# Altium schematic symbol library Source Selector.SchLib: 29 symbols
Pins are listed as number, name and electrical type; pins without a type are passive.

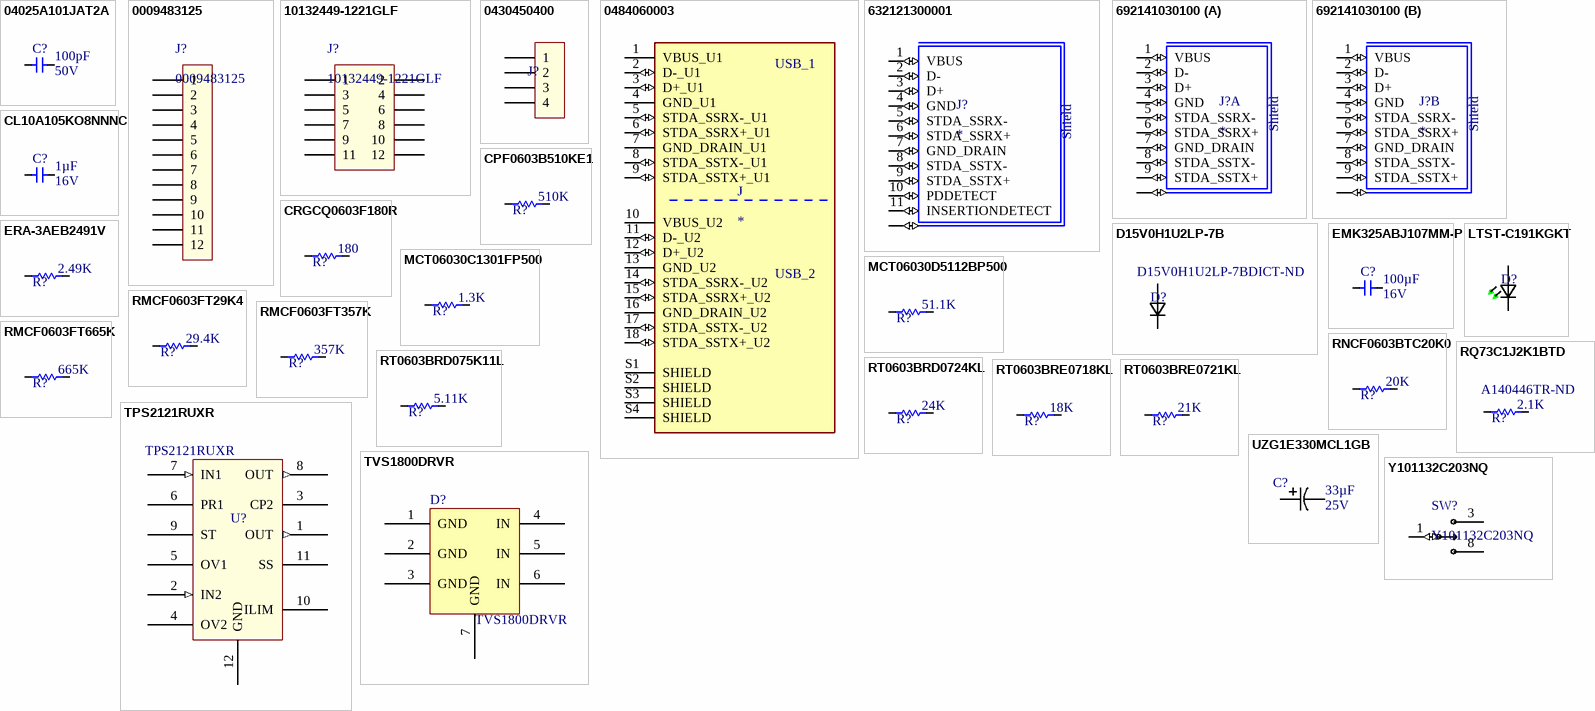
[diagram p0: symbols 04025A101JAT2A to Y101132C203NQ]

## 04025A101JAT2A
designator C?  Capacitance: 100pF  Voltage - Rated: 50V  (hidden comment: 04025A101JAT2A)
CAP CER 100PF 50V C0G/NP0 0402; Manufacturer: AVX Corporation; Tolerance: ±5%; Temperature Coefficient: C0G, NP0; Operating Temperature: -55°C ~ 125°C; Mounting Type: Surface Mount, MLCC; Package / Case: 0402 (1005 Metric); Size / Dimension: 0.039" L x 0.020" W (1.00mm x 0.50mm); Manufacturer Part Number: 04025A101JAT2A; Thickness (Max): 0.022" (0.56mm); ComponentLink1Description: Datasheet; ComponentLink1URL: http://datasheets.avx.com/C0GNP0-Dielectric.pdf; Supplier 1: Digi-Key; Supplier Part Number 1: 478-1082-1-ND
footprint 0603[1608]
pins: 1, 2

## 0009483125
designator J?
CONN RCPT 12P 0.156 GOLD EDGE MT; Manufacturer: Molex; Connector Type: Receptacle; Style: Board to Board or Cable; Number of Positions: 12; Pitch - Mating: 0.156" (3.96mm); Number of Positions Loaded: All; Contact Length - Post: 0.145" (3.68mm); Material Flammability Rating: UL94 V-0; Voltage Rating: 600V; Current Rating (Amps): 4.5A; ComponentLink1Description: Drawing; ComponentLink1URL: https://www.molex.com/pdm_docs/sd/009483125_sd.pdf; Manufacturer Part Number: 0009483125; Contact Type: Female Socket; Number of Rows: 1; Mounting Type: Board Edge, Through Hole, Right Angle; Termination: Solder; Fastening Type: Locking Ramp; Contact Finish - Mating: Gold; Contact Finish Thickness - Mating: 15.0µin (0.38µm); Insulation Color: Natural; Insulation Height: 0.308" (7.82mm); Operating Temperature: -40°C ~ 80°C; Contact Finish - Post: Tin; Features: Board Hooks; Applications: Automotive, General Purpose, Medical, Telecommunications; Insulation Material: Polyester; Contact Shape: Square; Contact Material: Brass; Contact Finish Thickness - Post: 100.0µin (2.54µm)
footprint 0009483125 (CONN RCPT 12P 0.156 GOLD EDGE MT)
pins: 1 (power), 2 (power), 3 (power), 4 (power), 5 (power), 6 (power), 7 (power), 8 (power), 9 (power), 10 (power), 11, 12

## 10132449-1221GLF
designator J?
CONN HEADER R/A 12POS 3MM; Manufacturer: Amphenol ICC (FCI); Pitch - Mating: 0.118" (3.00mm); Number of Positions: 12; Number of Positions Loaded: All; Style: Board to Cable/Wire; Shrouding: Shrouded - 4 Wall; Contact Length - Post: 0.126" (3.20mm); Material Flammability Rating: UL94 V-0; Voltage Rating: 250V; ComponentLink1Description: Datasheet; ComponentLink1URL: https://cdn.amphenol-icc.com/media/wysiwyg/files/documentation/datasheet/boardwiretoboard/bwb_minitekpwr3.0_hcc.pdf?__cf_chl_jschl_tk__=5b50c337d7977d3136f5a7e9c1a5138446a86722-1578191481-0-AdRe7fXYrldvOZ_oqyXIDS1Fw-yIkYCF-QCdaR8gv5bvudzwMePuF1OnY_qX9R1SRbUtnU8KyfMeQWvo-tgbYDs0UY0fEf2VYly7RnE44wN6RCRwe79pwwTkwB-vrp_E3FFt_m8Gv1l0VQgfDvqJJh9NWsFdXN6uiHYgEWJHQlxni9pgO_Rgu9b74Q_adNTuUPkDts4F_sjwuXFS2gwZ4qhDRVIbOsJk9z2IFwtIQbJe2Vjr12REDPUJnSIFI5L_m3PVR56FMV99EE0fexLx9E4Xzm8z4yXY4QuL_nxicuZLnFM8rKw84cv6VQDtrcv1h8b5URSWpnxkbKmN-6xqBT_N2gwuiomQytubllip4AB4QtXNO4uZy8p0Kaq8ZXDsS9f0XOGpGrNCvURFRCr5YrB2nakG2mZwStZMD_Rr-W-x1kEQ5VT0_Uar3vHfURsPPw; ComponentLink2Description: Drawing; ComponentLink2URL: https://cdn.amphenol-icc.com/media/wysiwyg/files/drawing/10132449.pdf?__cf_chl_jschl_tk__=3fb7538f61705fd3db72d6547b71e22025aaeae6-1578191484-0-ARZmBU2d2iTfwOyvkDW6juGvz8Wa7jPk-lPTAGC3bi6AwA2PAOw_83XbqimUoaj63c73oghkBl5EBlxfVnJt5FnKIy9_Ampqry6wpxN3P9yFfGzzu2bzrkjXc8H98cNGfE4yNZOx4lVYAc0DYF8iUgUBt3ot3PAqRWTuL_OE0dIKXvMd7u_4fU7igR1oB3QBFAu564mexcV1Dg4phJ9BA4kHFs6CIC10MmA2ZlPsaDWmfr6ivcYRarJOnVBN46Piz5s9Rafd2OkXuSIM4yJjlli4dKOItRDrJD3hRC0iA9RVgXipc9Ibd3Qny2RaW6xQiV-dovtBkpyFUGJQUyK5Difre6fQiv59Vrr2PfvD74WBgrERIBaIQ4JCRXFCC0XHSA; Supplier 1: Digi-Key; Supplier Part Number 1: 609-5289-ND; Contact Type: Male Pin; Number of Rows: 2; Row Spacing - Mating: 0.118" (3.00mm); Mounting Type: Through Hole, Right Angle; Termination: Solder; Fastening Type: Locking Ramp; Insulation Height: 0.343" (8.71mm); Contact Shape: Square; Contact Finish - Mating: Tin; Contact Finish - Post: Tin; Contact Material: Copper Alloy; Insulation Material: Polyamide (PA9T), Nylon 9T; Features: Board Lock, Glow Wire Compliant; Operating Temperature: -40°C ~ 105°C; Insulation Color: Black; Manufacturer Part Number: 10132449-1221GLF
footprint 10132449-1221GLF (CONN HEADER R/A 12POS 3MM)
pins: 1, 2, 3, 4, 5, 6, 7, 8, 9, 10, 11, 12

## 0430450400
designator J?  (value not drawn)
CONN HEADER R/A 4POS 3MM; Manufacturer: Molex; Number of Positions: 4; Row Spacing - Mating: 0.118" (3.00mm); Shrouding: Shrouded - 4 Wall; Contact Length - Post: 0.125" (3.18mm); Material Flammability Rating: UL94 V-0; Current Rating (Amps): 8A; Voltage Rating: 600V; ComponentLink1Description: Datasheet; ComponentLink1URL: https://www.molex.com/pdm_docs/sd/430450400_sd.pdf; ComponentLink2Description: Product Specification; ComponentLink2URL: https://www.molex.com/pdm_docs/ps/PS-43045.pdf; Manufacturer Part Number: 0430450400; Contact Type: 0.118" (3.00mm); Number of Rows: 2; Mounting Type: Through Hole, Right Angle; Termination: Solder; Fastening Type: Locking Ramp; Insulation Height: 0.290" (7.37mm); Contact Shape: Square; Contact Finish - Mating: Tin; Contact Finish Thickness - Mating: 100.0µin (2.54µm); Contact Finish - Post: Tin; Contact Material: Brass; Insulation Material: Liquid Crystal Polymer (LCP), Glass Filled; Features: Board Lock; Insulation Color: Black; Supplier 1: Digi-Key; Supplier Part Number 1: WM1814-ND
footprint 0430450400 (4-Pin Molex 3.00mm Pitch)
pins: 1, 2, 3, 4

## 0484060003
designator J
USB-A _USB TYPE-A_, Stacked USB 3.0 _USB 3.1 Gen 1, Superspeed_ Receptacle Connector 18 Position Through Hole, Right Angle; MP: 0484060003; MF: Molex; Package: None; Price: None; Availability: Unavailable; Value: *; SnapEDA_Link: https://www.snapeda.com/parts/0484060003/Molex/view-part/424547/?ref=snap
footprint MOLEX_0484060003
pins: 1 VBUS_U1 (power), 2 D-_U1 (io), 3 D+_U1 (io), 4 GND_U1 (power), 5 STDA_SSRX-_U1 (io), 6 STDA_SSRX+_U1 (io), 7 GND_DRAIN_U1 (power), 8 STDA_SSTX-_U1 (io), 9 STDA_SSTX+_U1 (io), 10 VBUS_U2 (power), 11 D-_U2 (io), 12 D+_U2 (io), 13 GND_U2 (power), 14 STDA_SSRX-_U2 (io), 15 STDA_SSRX+_U2 (io), 16 GND_DRAIN_U2 (power), 17 STDA_SSTX-_U2 (io), 18 STDA_SSTX+_U2 (io), S1 SHIELD, S2 SHIELD, S3 SHIELD, S4 SHIELD
text: USB_1; USB_2

## 632121300001
designator J?
USB-A (USB TYPE-A) USB 3.0 (USB 3.1 Gen 1, Superspeed) Receptacle Connector 11 Position Through Hole, Right Angle; MP: 632121300001; MF: Wurth Electronics; Price: None; Purchase-URL: https://pricing.snapeda.com/search/part/632121300001/?ref=eda; Package: None; Check_prices: https://www.snapeda.com/parts/632121300001/Wurth%20Electronics%20Inc./view-part/1118308/?ref=eda; Value: *; Availability: Warning; SnapEDA_Link: https://www.snapeda.com/parts/632121300001/Wurth%20Electronics%20Inc./view-part/1118308/?ref=snap
footprint 632121300001
pins: 1 VBUS (io), 2 D- (io), 3 D+ (io), 4 GND (io), 5 STDA_SSRX- (io), 6 STDA_SSRX+ (io), 7 GND_DRAIN (io), 8 STDA_SSTX- (io), 9 STDA_SSTX+ (io), 10 PDDETECT (io), 11 INSERTIONDETECT (io), 12 SHIELD (io), 13 SHIELD (io), S1 SHIELD (io), S2 SHIELD (io), S3 SHIELD (io), S4 SHIELD (io)
text: Shield

## 692141030100
designator J?
USB-A (USB TYPE-A), Stacked USB 3.0 (USB 3.1 Gen 1, Superspeed) Receptacle Connector 18 Position Through Hole, Right Angle; MP: 692141030100; MF: Wurth Electronics; Price: None; SnapEDA_Link: https://www.snapeda.com/parts/692141030100/Wurth%20Electronics%20Inc./view-part/604371/?ref=snap; Availability: Warning; Purchase-URL: https://pricing.snapeda.com/search/part/692141030100/?ref=eda; Value: *; Check_prices: https://www.snapeda.com/parts/692141030100/Wurth%20Electronics%20Inc./view-part/604371/?ref=eda; Package: None
footprint 692141030100
part A pins: 1 VBUS (io), 2 D- (io), 3 D+ (io), 4 GND (io), 5 STDA_SSRX- (io), 6 STDA_SSRX+ (io), 7 GND_DRAIN (io), 8 STDA_SSTX- (io), 9 STDA_SSTX+ (io), S3 SHIELD (io), S4 SHIELD (io)
part B pins: 1 VBUS (io), 2 D- (io), 3 D+ (io), 4 GND (io), 5 STDA_SSRX- (io), 6 STDA_SSRX+ (io), 7 GND_DRAIN (io), 8 STDA_SSTX- (io), 9 STDA_SSTX+ (io), S3 SHIELD (io), S4 SHIELD (io)
part A text: Shield
part B text: Shield

## CL10A105KO8NNNC
designator C?  Capacitance: 1µF  Voltage - Rated: 16V  (hidden comment: CL10A105KO8NNNC)
CAP CER 1UF 16V X5R 0603; Manufacturer: Samsung Electro-Mechanics; Tolerance: ±10%; Temperature Coefficient: X5R; Operating Temperature: -55°C ~ 85°C; Mounting Type: Surface Mount, MLCC; Package / Case: 0603; Manufacturer Part Number: CL10A105KO8NNNC; Thickness (Max): 0.110"" (2.80mm); ComponentLink1Description: Datasheet; ComponentLink1URL: https://ds.yuden.co.jp/TYCOMPAS/ut/detail?pn=EMK325ABJ107MM-P%20&u=M; Supplier 1: Digi-Key; Supplier Part Number 1: 1276-1034-1-ND
footprint CAPC3225X280N
pins: 1, 2

## CPF0603B510KE1
designator R?  Resistance: 510K  (hidden comment: CPF0603B510KE1)
RES SMD 510K OHM 0.1% 1/16W 0603; Manufacturer: TE Connectivity Passive Product; Temperature Coefficient: ±25ppm/°C; Power  (W): 1/16W; Package: 0603 (1608 Metric); Tolerance: ±0.1%; Operating Temperature: -55°C ~ 155°C; Composition: Thin Film; Manufacturer Part Number: CPF0603B510KE1; ComponentLink1Description: Datasheet; ComponentLink1URL: https://www.te.com/commerce/DocumentDelivery/DDEController?Action=srchrtrv&DocNm=1773200&DocType=DS&DocLang=English; Supplier 1: Digi-Key; Supplier Part Number 1: A102291CT-ND
footprint 0603[1608]
pins: 1, 2
1 alternate drawing of the same symbol

## CRGCQ0603F180R
designator R?  Resistance: 180  (hidden comment: CRGCQ0603F180R)
RES 180 OHM 1% 1/10W 0603; Manufacturer: TE Connectivity Passive Product; Power  (W): 0.1W; Tolerance: ±0.1%; Temperature Coefficient: ±50ppm/°C; Package: 0603 (1608 Metric); Operating Temperature: -55°C ~ 155°C; Composition: Thin Film; Manufacturer Part Number: CRGCQ0603F180R; ComponentLink1Description: Datasheet; ComponentLink1URL: https://www.yageo.com/upload/media/product/productsearch/datasheet/rchip/PYu-RT_1-to-0.01_RoHS_L_12.pdf; Supplier 1: Digi-Key; Supplier Part Number 1: A129679CT-ND
footprint 0603[1608]
pins: 1, 2
1 alternate drawing of the same symbol

## D15V0H1U2LP-7B
designator D?  Supplier Part Number 1: D15V0H1U2LP-7BDICT-ND  (hidden comment: D15V0H1U2LP-7B)
TVS DIODE 15VWM 27VC DFN1006-2; Manufacturer: Diodes Incorporated; ComponentLink1Description: Datasheet; ComponentLink1URL: http://optoelectronics.liteon.com/upload/download/DS22-2000-228/LTST-C191KGKT.PDF; Manufacturer Part Number: D15V0H1U2LP-7B; Supplier 1: Digi-Key
footprint 04025A101JAT2A
pins: 1 K2, 2 A2

## EMK325ABJ107MM-P
designator C?  Capacitance: 100µF  Voltage - Rated: 16V  (hidden comment: EMK325ABJ107MM-P)
CAP CER 100UF 16V X5R 1210; Manufacturer: Taiyo Yuden; Tolerance: ±20%; Temperature Coefficient: X5R; Operating Temperature: -55°C ~ 85°C; Mounting Type: Surface Mount, MLCC; Package / Case: 1210 (3225 Metric); Size / Dimension: 0.126"" L x 0.098"" W (3.20mm x 2.50mm); Manufacturer Part Number: EMK325ABJ107MM-P; Thickness (Max): 0.110"" (2.80mm); ComponentLink1Description: Datasheet; ComponentLink1URL: https://ds.yuden.co.jp/TYCOMPAS/ut/detail?pn=EMK325ABJ107MM-P%20&u=M; Supplier 1: Digi-Key; Supplier Part Number 1: 587-5426-1-ND
footprint CAPC3225X280N
pins: 1, 2

## ERA-3AEB2491V
designator R?  Resistance: 2.49K  (hidden comment: ERA-3AEB2491V)
RES SMD 2.49KOHM 0.1% 1/10W 0603; Manufacturer: Panasonic Electronic Components; Power  (W): 0.1W; Temperature Coefficient: ±25ppm/°C; Package: 0603 (1608 Metric); Tolerance: ±0.1%; Operating Temperature: -55°C ~ 155°C; Composition: Thin Film; Manufacturer Part Number: ERA-3AEB2491V; ComponentLink1Description: Datasheet; ComponentLink1URL: https://industrial.panasonic.com/cdbs/www-data/pdf/RDM0000/AOA0000C307.pdf; Supplier 1: Digi-Key; Supplier Part Number 1: P2.49KDBCT-ND
footprint 0603[1608]
pins: 1, 2
1 alternate drawing of the same symbol

## LTST-C191KGKT
designator D?  (value not drawn)
LED GREEN CLEAR SMD 0603; Manufacturer: Lite-On Inc.; Lens Color: Colourless; Millicandela Rating: 35mcd; Lens Style: Rectangle with Flat Top; Lens Size: 1.10mm x 0.80mm; Voltage - Forward (Vf) (Typ): 2V; Current - Test: 20mA; Viewing Angle: 130°; Wavelength - Dominant: 571nm; Wavelength - Peak: 574nm; ComponentLink1Description: Datasheet; ComponentLink1URL: http://optoelectronics.liteon.com/upload/download/DS22-2000-228/LTST-C191KGKT.PDF; Manufacturer Part Number: LTST-C191KGKT; Colour: Green; Lens Transparency: Clear; Mounting Type: Surface Mount; Package / Case: 0603 (1608 Metric); Size / Dimension: 1.60mm L x 0.80mm W; Height (Max): 0.65mm; Supplier 1: Digi-Key; Supplier Part Number 1: 160-1446-1-ND
footprint LTST-C191KGKT (Green 571nm LED Indication - Discrete 2V 0603)
pins: 1 K2, 2 A2

## MCT06030C1301FP500
designator R?  Resistance: 1.3K  (hidden comment: MCT06030C1301FP500)
RES SMD 1.3K OHM 1% 1/8W 0603; Manufacturer: Vishay Beyschlag; Temperature Coefficient: ±50ppm/°C; Power  (W): 1/8W; Package: 0603 (1608 Metric); Tolerance: ±1%; Operating Temperature: -55°C ~ 155°C; Composition: Thin Film; Manufacturer Part Number: MCT06030C1301FP500; ComponentLink1Description: Datasheet; ComponentLink1URL: http://www.vishay.com/docs/28705/mcx0x0xpro.pdf; Supplier 1: Digi-Key; Supplier Part Number 1: 749-1605-1-ND
footprint 0603[1608]
pins: 1, 2
1 alternate drawing of the same symbol

## MCT06030D5112BP500
designator R?  Resistance: 51.1K  (hidden comment: MCT06030D5112BP500)
RES SMD 51.1KOHM 0.1% 1/10W 0603; Manufacturer: Vishay Beyschlag/Draloric/BC Components; Power  (W): 0.1W; Temperature Coefficient: ±25ppm/°C; Package: 0603 (1608 Metric); Tolerance: ±0.1%; Operating Temperature: -55°C ~ 125°C; Composition: Thin Film; Manufacturer Part Number: MCT06030D5112BP500; ComponentLink1Description: Datasheet; ComponentLink1URL: https://www.vishay.com/docs/28700/mcx0x0xpre.pdf; Supplier 1: Digi-Key; Supplier Part Number 1: 749-MCT06030D5112BP500CT-ND
footprint 0603[1608]
pins: 1, 2
1 alternate drawing of the same symbol

## RMCF0603FT29K4
designator R?  Resistance: 29.4K  (hidden comment: RMCF0603FT29K4)
RES 29.4K OHM 1% 1/10W 0603; Manufacturer: Stackpole Electronics Inc; Power  (W): 0.1W; Temperature Coefficient: ±100ppm/°C; Package: 0603 (1608 Metric); Tolerance: ±1%; Operating Temperature: -55°C ~ 155°C; Composition: Thick Film; Manufacturer Part Number: RMCF0603FT29K4; Supplier 1: Digi-Key; Supplier Part Number 1: 738-RMCF0603FT29K4CT-ND
footprint 0603[1608]
pins: 1, 2
1 alternate drawing of the same symbol

## RMCF0603FT357K
designator R?  Resistance: 357K  (hidden comment: RMCF0603FT357K)
RES 357K OHM 1% 1/10W 0603; Manufacturer: Stackpole Electronics Inc; Power  (W): 0.1W; Temperature Coefficient: ±100ppm/°C; Package: 0603 (1608 Metric); Tolerance: ±1%; Operating Temperature: -55°C ~ 155°C; Composition: Thick Film; Manufacturer Part Number: RMCF0603FT357K; ComponentLink1Description: Datasheet; ComponentLink1URL: https://www.seielect.com/catalog/sei-rmcf_rmcp.pdf; Supplier 1: Digi-Key; Supplier Part Number 1: RMCF0603FT357KCT-ND
footprint 0603[1608]
pins: 1, 2
1 alternate drawing of the same symbol

## RMCF0603FT665K
designator R?  Resistance: 665K  (hidden comment: RMCF0603FT665K)
RES 665K OHM 1% 1/10W 0603; Manufacturer: Stackpole Electronics Inc; Power  (W): 0.1W; Temperature Coefficient: ±100ppm/°C; Package: 0603 (1608 Metric); Tolerance: ±1%; Operating Temperature: -55°C ~ 155°C; Composition: Thick Film; Manufacturer Part Number: RMCF0603FT665K; ComponentLink1Description: Datasheet; ComponentLink1URL: https://www.seielect.com/catalog/sei-rmcf_rmcp.pdf; Supplier 1: Digi-Key; Supplier Part Number 1: RMCF0603FT665KCT-ND
footprint 0603[1608]
pins: 1, 2
1 alternate drawing of the same symbol

## RNCF0603BTC20K0
designator R?  Resistance: 20K  (hidden comment: RNCF0603BTC20K0)
RES 20K OHM 0.1% 1/10W 0603; Manufacturer: Stackpole Electronics Inc; Power  (W): 0.1W; Temperature Coefficient: ±50ppm/°C; Package: 0603 (1608 Metric); Tolerance: ±0.1%; Operating Temperature: -55°C ~ 155°C; Composition: Thin Film; Manufacturer Part Number: RNCF0603BTC20K0; ComponentLink1Description: Datasheet; ComponentLink1URL: https://www.seielect.com/catalog/sei-rncf.pdf; Supplier 1: Digi-Key; Supplier Part Number 1: RNCF0603BTC20K0CT-ND
footprint 0603[1608]
pins: 1, 2
1 alternate drawing of the same symbol

## RQ73C1J2K1BTD
designator R?  Resistance: 2.1K  Supplier Part Number 1: A140446TR-ND  (hidden comment: RQ73C1J2K1BTD)
RES 2.1 KOHMS 0.1% 0.15W 0603; Manufacturer: TE Connectivity Passive Product; Power  (W): 0.1W; Temperature Coefficient: ±10ppm/°C; Package: 0603 (1608 Metric); Tolerance: ±0.1%; Operating Temperature: -55°C ~ 155°C; Composition: Thin Film; Manufacturer Part Number: RQ73C1J2K1BTD; ComponentLink1Description: Datasheet; ComponentLink1URL: https://media.digikey.com/pdf/Data%20Sheets/Tyco%20Electronics%20P%20B%20PDFs/RQ73-0618%20v2.pdf; Supplier 1: Digi-Key
footprint 0603[1608]
pins: 1, 2
1 alternate drawing of the same symbol

## RT0603BRD075K11L
designator R?  Resistance: 5.11K  (hidden comment: RT0603BRD075K11L)
RES SMD 5.11KOHM 0.1% 1/10W 0603; Manufacturer: Yageo; Power  (W): 0.1W; Temperature Coefficient: ±25ppm/°C; Package: 0603 (1608 Metric); Tolerance: ±0.1%; Operating Temperature: -55°C ~ 155°C; Composition: Thin Film; Manufacturer Part Number: RT0603BRD075K11L; ComponentLink1Description: Datasheet; ComponentLink1URL: https://www.yageo.com/upload/media/product/productsearch/datasheet/rchip/PYu-RT_1-to-0.01_RoHS_L_12.pdf; Supplier 1: Digi-Key; Supplier Part Number 1: YAG1695CT-ND
footprint 0603[1608]
pins: 1, 2
1 alternate drawing of the same symbol

## RT0603BRD0724KL
designator R?  Resistance: 24K  (hidden comment: RT0603BRD0724KL)
RES SMD 24K OHM 0.1% 1/10W 0603; Manufacturer: Yageo; Power  (W): 0.1W; Temperature Coefficient: ±25ppm/°C; Package: 0603 (1608 Metric); Tolerance: ±0.1%; Operating Temperature: -55°C ~ 155°C; Composition: Thin Film; Manufacturer Part Number: RT0603BRD0724KL; ComponentLink1Description: Datasheet; ComponentLink1URL: https://www.yageo.com/upload/media/product/productsearch/datasheet/rchip/PYu-RT_1-to-0.01_RoHS_L_12.pdf; Supplier 1: Digi-Key; Supplier Part Number 1: YAG1600CT-ND
footprint 0603[1608]
pins: 1, 2
1 alternate drawing of the same symbol

## RT0603BRE0718KL
designator R?  Resistance: 18K  (hidden comment: RT0603BRE0718KL)
RES SMD 18K OHM 0.1% 1/10W 0603; Manufacturer: Yageo; Power  (W): 0.1W; Temperature Coefficient: ±50ppm/°C; Package: 0603 (1608 Metric); Tolerance: ±0.1%; Operating Temperature: -55°C ~ 155°C; Composition: Thin Film; Manufacturer Part Number: RT0603BRE0718KL; ComponentLink1Description: Datasheet; ComponentLink1URL: https://www.yageo.com/upload/media/product/productsearch/datasheet/rchip/PYu-RT_1-to-0.01_RoHS_L_12.pdf; Supplier 1: Digi-Key; Supplier Part Number 1: YAG4641CT-ND
footprint 0603[1608]
pins: 1, 2
1 alternate drawing of the same symbol

## RT0603BRE0721KL
designator R?  Resistance: 21K  (hidden comment: RT0603BRE0721KL)
RES SMD 21K OHM 0.1% 1/10W 0603; Manufacturer: Yageo; Power  (W): 0.1W; Temperature Coefficient: ±50ppm/°C; Package: 0603 (1608 Metric); Tolerance: ±0.1%; Operating Temperature: -55°C ~ 155°C; Composition: Thin Film; Manufacturer Part Number: RT0603BRE0721KL; ComponentLink1Description: Datasheet; ComponentLink1URL: https://www.yageo.com/upload/media/product/productsearch/datasheet/rchip/PYu-RT_1-to-0.01_RoHS_L_12.pdf; Supplier 1: Digi-Key; Supplier Part Number 1: YAG4667CT-ND
footprint 0603[1608]
pins: 1, 2
1 alternate drawing of the same symbol

## TPS2121RUXR
designator U?
PWR MGMT BATTERY MGMT; ComponentLink1Description: Datasheet; ComponentLink1URL: https://www.ti.com/general/docs/suppproductinfo.tsp?distId=10&gotoUrl=http%253A%252F%252Fwww.ti.com%252Flit%252Fgpn%252Ftps2120; Supplier 1: Arrow Electronics; Supplier Part Number 1: TPS2121RUXR
footprint IC_TPS2121RUXR
pins: 1 OUT (out) "Power output", 2 IN2 (in), 3 CP2, 4 OV2, 5 OV1, 6 PR1 "Enables priority operation", 7 IN1 (in), 8 OUT (out), 9 ST, 10 ILIM, 11 SS, 12 GND

## TVS1800DRVR
designator D?
UNIDIR PRECISION SURGE DIODE; Voltage - Clamping: 24.7V; Mounting Type: Surface Mount; Manufacturer ID: TVS1800DRVR
footprint TVS1800DRVR
pins: 1 GND, 2 GND, 3 GND, 4 IN, 5 IN, 6 IN, 7 GND

## UZG1E330MCL1GB
designator C?  Voltage: 25V  Capacitance: 33µF  (hidden comment: UZG1E330MCL1GB)
CAP ALUM 33UF 20% 25V SMD; Manufacturer: Nichicon; Lifetime @ Temp.: 1000 Hrs @ 105°C; Ripple Current @ Low Frequency: 42mA @ 120Hz; Ripple Current @ High Frequency: 63mA @ 10kHz; Manufacturer_Part_Number: UZG1E330MCL1GB; Tolernace: ±20%; Operating Temp.: -40°C ~ 105°C
footprint PCAP_6.3x3-ELECT_NCA-M
pins: 1, 2

## Y101132C203NQ
designator SW?
SWITCH KEYLOCK 2POS SPDT 4A 125V; Manufacturer: C&K; Number of Positions: 2; Switch Function: On-On; Contact Timing: Not Specified; Current Rating (Amps): 4A (AC/DC); Angle of Throw: 90°; Key Removable Positions: 1 only; Actuator Type: Flat Key; Voltage Rating - DC: 28V; Electrical Life: 10,000 Cycles; ComponentLink1Description: Datasheet; ComponentLink1URL: https://dznh3ojzb2azq.cloudfront.net/products/Switchlock/Y/documents/datasheet.pdf; Supplier 1: Digi-Key; Supplier Part Number 1: CKN11517-ND; Manufacturer Part Number: Y101132C203NQ; Circuit: SPDT; Voltage Rating - AC: 125V; Contact Material: Copper; Contact Finish: Silver; Mounting Type: Panel Mount; Depth Behind Flange: 28.83mm; Panel Cutout Dimensions: Circular - 19.30mm Dia; Termination Style: Solder Lug
footprint Y101132C203NQ (SWITCH KEYLOCK 2POS SPDT 4A 125V)
pins: 1 (io), 3 (power), 8 (power)